# EAGLE library part V3.1 (library WeAct)
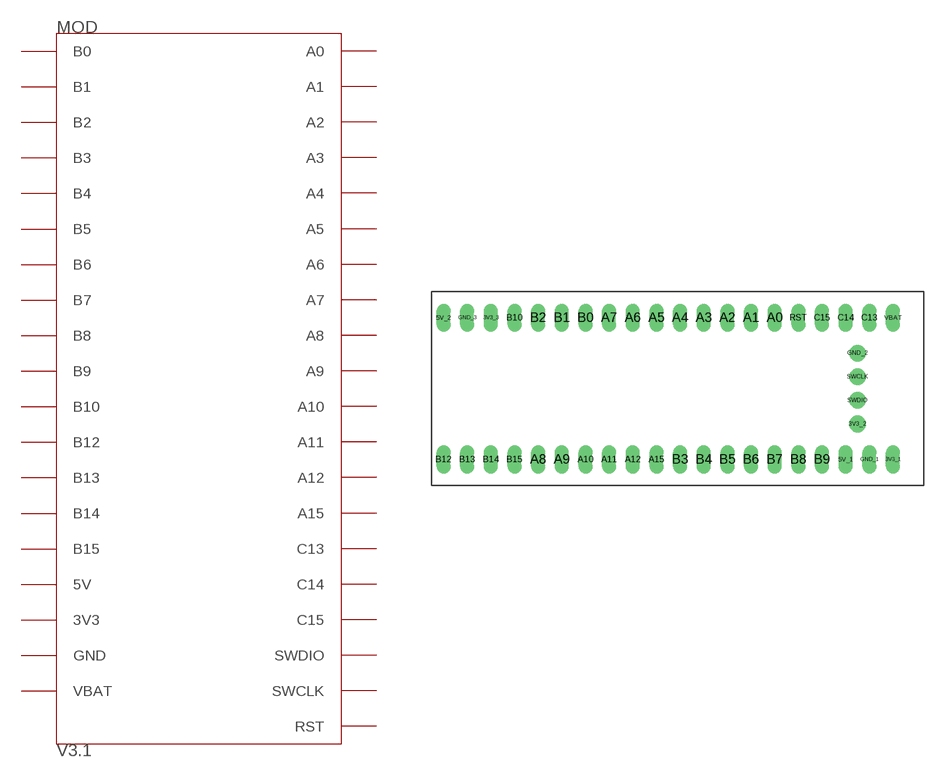
[diagram p0: symbol with the pads of V3.1; footprint V3.1]

Designator prefix MOD

## V3.1  [V3.1]
3V3_1  3V3
3V3_2  3V3
3V3_3  3V3
5V_1  5V
5V_2  5V
A0  A0
A1  A1
A2  A2
A3  A3
A4  A4
A5  A5
A6  A6
A7  A7
A8  A8
A9  A9
A10  A10
A11  A11
A12  A12
A15  A15
B0  B0
B1  B1
B2  B2
B3  B3
B4  B4
B5  B5
B6  B6
B7  B7
B8  B8
B9  B9
B10  B10
B12  B12
B13  B13
B14  B14
B15  B15
C13  C13
C14  C14
C15  C15
GND_1  GND
GND_2  GND
GND_3  GND
RST  RST
SWCLK  SWCLK
SWDIO  SWDIO
VBAT  VBAT

## Footprint V3.1 (pad centres in mm)
drill 1.016 long: 3V3_1 49.53,2.78; 3V3_3 6.35,18; 5V_1 44.45,2.78; 5V_2 1.27,18; A0 36.83,18; A1 34.29,18; A2 31.75,18; A3 29.21,18; A4 26.67,18; A5 24.13,18; A6 21.59,18; A7 19.05,18; A8 11.43,2.78; A9 13.97,2.78; A10 16.51,2.78; A11 19.05,2.78; A12 21.59,2.78; A15 24.13,2.78; B0 16.51,18; B1 13.97,18; B2 11.43,18; B3 26.67,2.78; B4 29.21,2.78; B5 31.75,2.78; B6 34.29,2.78; B7 36.83,2.78; B8 39.37,2.78; B9 41.91,2.78; B10 8.89,18; B12 1.27,2.78; B13 3.81,2.78; B14 6.35,2.78; B15 8.89,2.78; C13 46.99,18; C14 44.45,18; C15 41.91,18; GND_1 46.99,2.78; GND_3 3.81,18; RST 39.37,18; VBAT 49.53,18
drill 1.016 pad 1.778: 3V3_2 45.72,6.58; GND_2 45.72,14.2; SWCLK 45.72,11.66; SWDIO 45.72,9.12